# Altium footprint library LM324N.PcbLib: 2 footprints
Each footprint in its own frame and in the unit in brackets; x right, y up, seen from the top. Pads: shape width x height; smd on the part's side, far side on the other; paste and mask are expansions set on the pad; w line width, h text height; cw(c..) or ccw(c..) is an arc to the next point about the centre after c.
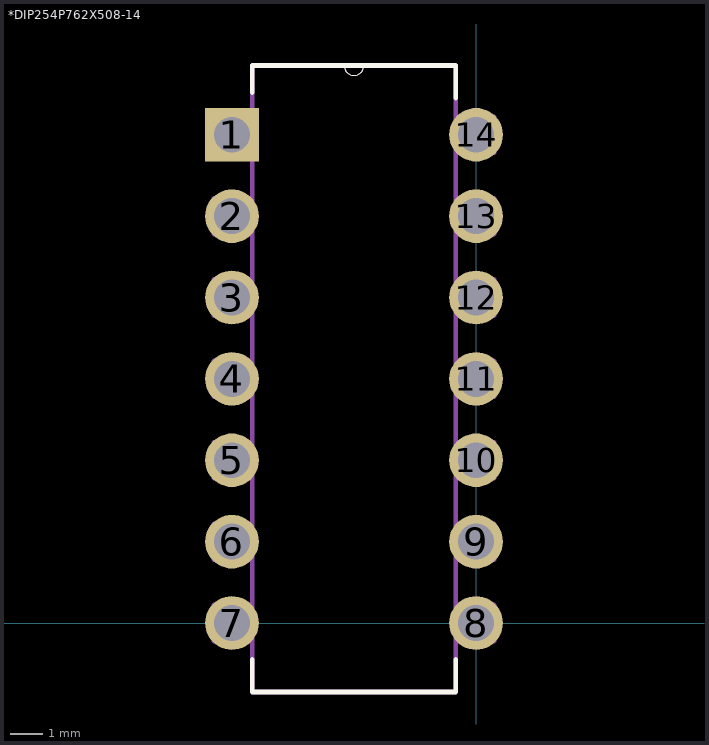
[diagram p0: the footprints below, top view; thin cyan lines are the x and y axes]

## *DIP254P762X508-14 [mil]
pads (14):
  rect 66x66 hole 44: 1(-300,600)
  round 66 hole 44: 2(-300,500) 3(-300,400) 4(-300,300) 5(-300,200) 6(-300,100) 7(-300,0) 8(0,0) 9(0,100) 10(0,200) 11(0,300) 12(0,400) 13(0,500) 14(0,600)
Top Overlay:
  lines w0: -162,685 ccw(c-150,685) -138,685
  lines w6: -275,-45 -275,-85 -25,-85 -25,-45 ; -275,652 -275,685 -162,685 -138,685 -25,685 -25,645
Mechanical 15:
  lines w0: -162,685 ccw(c-150,685) -138,685 cw(c-150,685) -162,685
  lines w6: -322,-22 -275,-22 ; -322,-22 -322,22 ; -322,-22 -275,-22 ; -322,-22 -322,22 ; -322,22 -275,22 ; -322,22 -275,22 ; -322,78 -275,78 ; -322,78 -322,122 ; -322,78 -275,78 ; -322,78 -322,122 ; -322,122 -275,122 ; -322,122 -275,122 ; -322,178 -275,178 ; -322,178 -322,222 ; -322,178 -275,178 ; -322,178 -322,222 ; -322,222 -275,222 ; -322,222 -275,222 ; -322,278 -275,278 ; -322,278 -322,322 ; -322,278 -275,278 ; -322,278 -322,322 ; -322,322 -275,322 ; -322,322 -275,322 ; -322,378 -275,378 ; -322,378 -322,422 ; -322,378 -275,378 ; -322,378 -322,422 ; -322,422 -275,422 ; -322,422 -275,422 ; -322,478 -275,478 ; -322,478 -322,522 ; -322,478 -275,478 ; -322,478 -322,522 ; -322,522 -275,522 ; -322,522 -275,522 ; -322,578 -275,578 ; -322,578 -322,622 ; -322,578 -275,578 ; -322,578 -322,622 ; -322,622 -275,622 ; -322,622 -275,622 ; -275,-85 -275,685 ; -275,-85 -25,-85 ; -275,-85 -275,685 ; -275,-85 -25,-85 ; -275,-22 -275,22 ; -275,-22 -275,22 ; -275,78 -275,122 ; -275,78 -275,122 ; -275,178 -275,222 ; -275,178 -275,222 ; -275,278 -275,322 ; -275,278 -275,322 ; -275,378 -275,422 ; -275,378 -275,422 ; -275,478 -275,522 ; -275,478 -275,522 ; -275,578 -275,622 ; -275,578 -275,622 ; -275,685 -162,685 ; -275,685 -162,685 ; -162,685 -138,685 ; -162,685 -138,685 ; -138,685 -25,685 ; -138,685 -25,685 ; -25,-85 -25,685 ; -25,-85 -25,685 ; -25,-22 22,-22 ; -25,-22 -25,22 ; -25,-22 22,-22 ; -25,-22 -25,22 ; -25,22 22,22 ; -25,22 22,22 ; -25,78 22,78 ; -25,78 -25,122 ; -25,78 22,78 ; -25,78 -25,122 ; -25,122 22,122 ; -25,122 22,122 ; -25,178 22,178 ; -25,178 -25,222 ; -25,178 22,178 ; -25,178 -25,222 ; -25,222 22,222 ; -25,222 22,222 ; -25,278 22,278 ; -25,278 -25,322 ; -25,278 22,278 ; -25,278 -25,322 ; -25,322 22,322 ; -25,322 22,322 ; -25,378 22,378 ; -25,378 -25,422 ; -25,378 22,378 ; -25,378 -25,422 ; -25,422 22,422 ; -25,422 22,422 ; -25,478 22,478 ; -25,478 -25,522 ; -25,478 22,478 ; -25,478 -25,522 ; -25,522 22,522 ; -25,522 22,522 ; -25,578 22,578 ; -25,578 -25,622 ; -25,578 22,578 ; -25,578 -25,622 ; -25,622 22,622 ; -25,622 22,622 ; 22,-22 22,22 ; 22,-22 22,22 ; 22,78 22,122 ; 22,78 22,122 ; 22,178 22,222 ; 22,178 22,222 ; 22,278 22,322 ; 22,278 22,322 ; 22,378 22,422 ; 22,378 22,422 ; 22,478 22,522 ; 22,478 22,522 ; 22,578 22,622 ; 22,578 22,622

## PCBComponent_1 [mil]